# Altium footprint library COMBICON PTSA.PcbLib: 7 footprints
Each footprint in its own frame and in the unit in brackets; x right, y up, seen from the top. Pads: shape width x height; smd on the part's side, far side on the other; paste and mask are expansions set on the pad; w line width, h text height; cw(c..) or ccw(c..) is an arc to the next point about the centre after c.
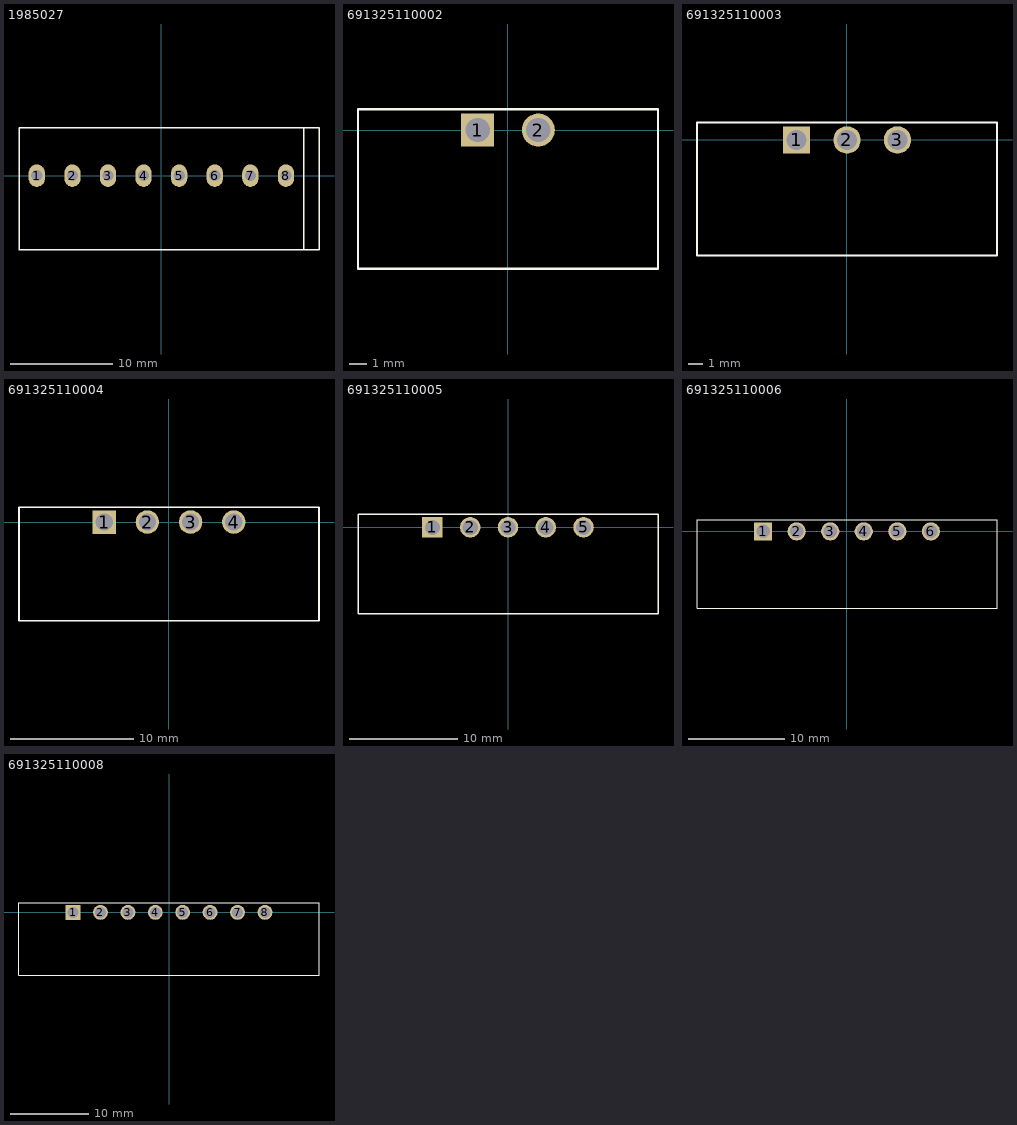
[diagram p0: the footprints below, top view; thin cyan lines are the x and y axes]

## 1985027 [mm]
pads (8):
  oval 1.6x2.2 hole 1.1 unplated: 1(-12.25,0) 2(-8.75,0) 3(-5.25,0) 4(-1.75,0) 5(1.75,0) 6(5.25,0) 7(8.75,0) 8(12.25,0)
Top Overlay:
  lines w0.127: -14,-7.325 -14,4.7 14,4.7 ; -14,-7.3 14,-7.3 ; 14,-7.3 15.5,-7.3 15.5,4.7 14,4.7 ; 14,-7.3 14,4.7
3D body "pxc_1985027_04_PTSA-1-5-8-3-5-F_3D.stp": height 13.11, standoff -3.49, extent -13.925,-7.2 15.575,4.8

## 691325110002 [mm] "3,50mm - PCB Horizontal With flanges - 02p"
height 7
pads (2):
  rect 1.9x1.9 hole 1.4: 1(-1.75,0)
  round 1.9 hole 1.4: 2(1.75,0)
Top Overlay:
  lines w0.127: -8.65,-8 8.65,-8 8.65,1.2 -8.65,1.2 -8.65,-8
3D body "691325110002.stp": height 7.21, standoff -3.49, extent -8.65,-8 8.65,1.2

## 691325110003 [mm] "3,50mm - PCB Horizontal With flanges - 03p"
height 7
pads (3):
  rect 1.9x1.9 hole 1.4: 1(-3.5,0)
  round 1.9 hole 1.4: 2(0,0) 3(3.5,0)
Top Overlay:
  lines w0.127: -10.399,-8 10.4,-8 10.4,1.2 -10.399,1.2 -10.399,-8
3D body "691325110003.stp": height 7.21, standoff -3.49, extent -10.4,-8 10.4,1.2

## 691325110004 [mm] "3,50mm - PCB Horizontal With flanges - 04p"
height 7
pads (4):
  rect 1.9x1.9 hole 1.4: 1(-5.25,0)
  round 1.9 hole 1.4: 2(-1.75,0) 3(1.75,0) 4(5.25,0)
Top Overlay:
  lines w0.127: -12.15,-8 12.15,-8 12.15,1.2 -12.15,1.2 -12.15,-8
3D body "691325110004.stp": height 7.21, standoff -3.49, extent -12.15,-8 12.15,1.2

## 691325110005 [mm] "3,50mm - PCB Horizontal With flanges - 05p"
height 7
pads (5):
  rect 1.9x1.9 hole 1.4: 1(-7,0)
  round 1.9 hole 1.4: 2(-3.5,0) 3(0,0) 4(3.5,0) 5(7,0)
Top Overlay:
  lines w0.127: -13.9,-8 -13.9,1.2 13.9,1.2 13.9,-8 -13.9,-8
3D body "691325110005.stp": height 7.21, standoff -3.49, extent -13.9,-8 13.9,1.2

## 691325110006 [mm] "3,50mm - PCB Horizontal With flanges - 06p"
height 7
pads (6):
  rect 1.9x1.9 hole 1.4: 1(-8.75,0)
  round 1.9 hole 1.4: 2(-5.25,0) 3(-1.75,0) 4(1.75,0) 5(5.25,0) 6(8.75,0)
Top Overlay:
  lines w0.127: -15.65,-8 15.65,-8 15.65,1.2 -15.65,1.2 -15.65,-8
3D body "691325110006.stp": height 7.21, standoff -3.49, extent -15.65,-8 15.65,1.2

## 691325110008 [mm] "3,50mm - PCB Horizontal With flanges - 08p"
height 7
pads (8):
  rect 1.9x1.9 hole 1.4: 1(-12.25,0)
  round 1.9 hole 1.4: 2(-8.75,0) 3(-5.25,0) 4(-1.75,0) 5(1.75,0) 6(5.25,0) 7(8.75,0) 8(12.25,0)
Top Overlay:
  lines w0.127: -19.15,-8 -19.15,1.2 19.15,1.2 19.15,-8 -19.15,-8
3D body "691325110008.stp": height 7.21, standoff -3.49, extent -19.15,-8 19.15,1.2